# EAGLE library part PTH78020 (library Jeff)
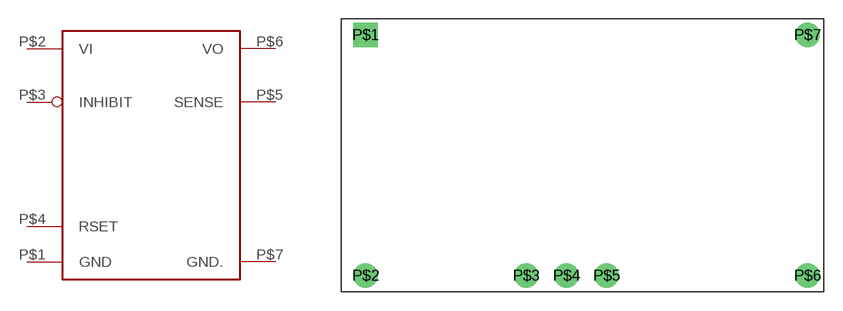
[diagram p2: symbol with the pads of PTN78020W; footprint PTN78020W]

Designator prefix -

## PTH78020  [PTN78020W]
P$1  GND  pwr
P$2  VI  pwr
P$3  INHIBIT  in
P$4  RSET  in
P$5  SENSE  in
P$6  VO  out
P$7  GND.  pwr

## Footprint PTN78020W (pad centres in mm)
drill 1.1 pad 1.93 square: P$1 -15.875,11.43
drill 1.1 pad 1.93: P$2 -15.875,-7.62; P$3 -3.175,-7.62; P$4 0,-7.62; P$5 3.175,-7.62; P$6 19.05,-7.62; P$7 19.05,11.43